# EAGLE library part 776266-1 (library 776266-1)
14 POS RIGHT ANGLE HEADER ASSY
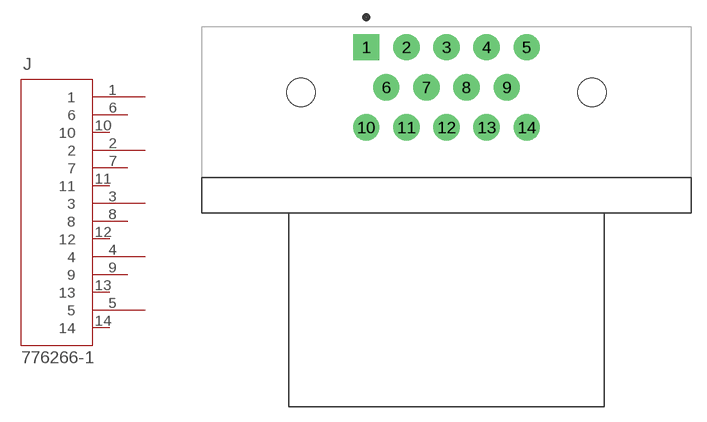
[diagram p0: symbol with the pads of TE_776266-1; footprint TE_776266-1]

Designator prefix J

## 776266-1 (MANUFACTURER: TE CONNECTIVITY; PARTREV: B7; STANDARD: MANUFACTURER RECOMMENDATIONS)  [TE_776266-1]
1  1  pas
2  2  pas
3  3  pas
4  4  pas
5  5  pas
6  6  pas
7  7  pas
8  8  pas
9  9  pas
10  10  pas
11  11  pas
12  12  pas
13  13  pas
14  14  pas

## Footprint TE_776266-1 (pad centres in mm)
drill 1.75 square: 1 -8,4
drill 1.75: 2 -4,4; 3 0,4; 4 4,4; 5 8,4; 6 -6,0; 7 -2,0; 8 2,0; 9 6,0; 10 -8,-4; 11 -4,-4; 12 0,-4; 13 4,-4; 14 8,-4
hole 2.85 at -14.5,-0.5
hole 2.85 at 14.5,-0.5